# EAGLE library part HIROSE-BM25-4 (library m_connector)
HIROSE high-power battery connector https://www.hirose.com/product/en/products/BM25/
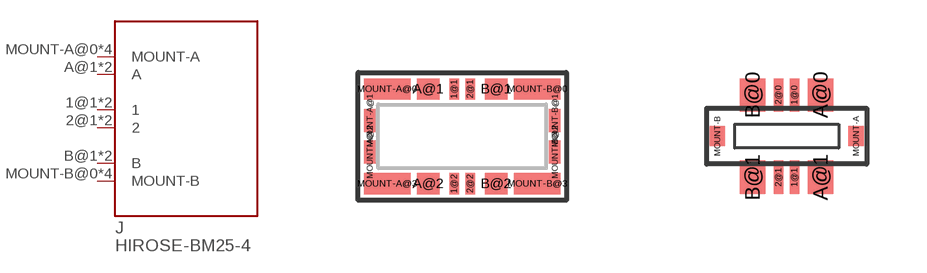
[diagram p26: symbol with the pads of HIROSE-BM25-4S; footprints HIROSE-BM25-4S, HIROSE-BM25-4P]

Designator prefix J

## HIROSE-BM25-4RECEPTACLE (MANUF: HIROSE; PARTNUM: BM25-4S/2-V(51))  [HIROSE-BM25-4S]
1@1  1
1@2  1
2@1  2
2@2  2
A@1  A
A@2  A
B@1  B
B@2  B
MOUNT-A@0  MOUNT-A
MOUNT-A@1  MOUNT-A
MOUNT-A@2  MOUNT-A
MOUNT-A@3  MOUNT-A
MOUNT-B@0  MOUNT-B
MOUNT-B@1  MOUNT-B
MOUNT-B@2  MOUNT-B
MOUNT-B@3  MOUNT-B

## HIROSE-BM25-4HEADER (MANUF: HIROSE; PARTNUM: BM25-4P/2-V(51))  [HIROSE-BM25-4P]
1@0  1
1@1  1
2@0  2
2@1  2
A@0  A
A@1  A
B@0  B
B@1  B
MOUNT-A  MOUNT-A
MOUNT-B  MOUNT-B

## Footprint HIROSE-BM25-4S (pad centres in mm)
smd 0.23 x 0.53: 1@1 -0.2,1.185; 1@2 -0.2,-1.185; 2@1 0.2,1.185; 2@2 0.2,-1.185
smd 0.56 x 0.53: A@1 -0.85,1.185; A@2 -0.85,-1.185; B@1 0.85,1.185; B@2 0.85,-1.185
smd 1.16 x 0.53: MOUNT-A@0 -1.88,1.185; MOUNT-A@3 -1.88,-1.185; MOUNT-B@0 1.88,1.185; MOUNT-B@3 1.88,-1.185
smd 0.29 x 0.58: MOUNT-A@1 -2.315,0.395; MOUNT-A@2 -2.315,-0.395; MOUNT-B@1 2.315,0.395; MOUNT-B@2 2.315,-0.395

## Footprint HIROSE-BM25-4P (pad centres in mm)
smd 0.23 x 0.83: 1@0 0.2,1.03; 1@1 0.2,-1.03; 2@0 -0.2,1.03; 2@1 -0.2,-1.03
smd 0.64 x 0.83: A@0 0.85,1.03; A@1 0.85,-1.03; B@0 -0.85,1.03; B@1 -0.85,-1.03
smd 0.38 x 0.5: MOUNT-A 1.735,0; MOUNT-B -1.735,0